# Altium footprint library SOT50P160X60-5N.PcbLib: 1 footprints
Each footprint in its own frame and in the unit in brackets; x right, y up, seen from the top. Pads: shape width x height; smd on the part's side, far side on the other; paste and mask are expansions set on the pad; w line width, h text height; cw(c..) or ccw(c..) is an arc to the next point about the centre after c.
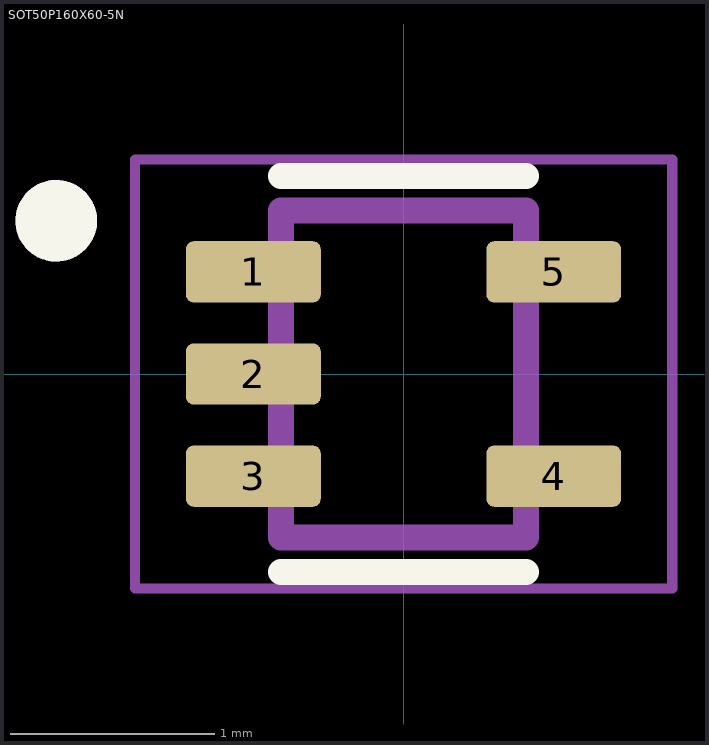
[diagram p0: the footprint, top view; thin cyan lines are the x and y axes]

## SOT50P160X60-5N [mm]
pads (5):
  rrect25% 0.66x0.3 smd: 1(-0.735,0.5) 2(-0.735,0) 3(-0.735,-0.5) 4(0.735,-0.5) 5(0.735,0.5)
Top Overlay:
  circle w0.2: c-1.7,0.75 r0.1
  lines w0.127: -0.6,-0.97 0.6,-0.97 ; -0.6,0.97 0.6,0.97
Mechanical 13:
  circle w0.2: c-1.7,0.75 r0.1
  lines w0.127: -0.6,-0.8 0.6,-0.8 0.6,0.8 -0.6,0.8 -0.6,-0.8
Mechanical 15:
  lines w0.05: -1.315,-1.05 1.315,-1.05 1.315,1.05 -1.315,1.05 -1.315,-1.05
3D body "step_temp.STEP": height 0.6, standoff 0, extent -0.8,-0.8 0.8,0.8